# Altium schematic symbol library SL_Diodes.SchLib: 5 symbols
Pins are listed as number, name and electrical type; pins without a type are passive.

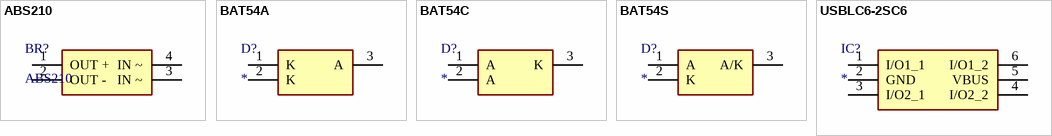
[diagram p0: symbols ABS210 to USBLC6-2SC6]

## ABS210
designator BR?
Bridge Rectifier, 1kV, 2A; Manufacturer_Name: Shikues; Datasheet Link: https://datasheet.lcsc.com/szlcsc/2001081204_Shikues-ABS210_C475598.pdf; Height: 1.5mm; Manufacturer_Part_Number: ABS210
footprint SOP400P620X150-4N
pins: 1 OUT +, 2 OUT -, 3 IN ~, 4 IN ~

## BAT54A
designator D?
Schottky Diode; Manufacturer_Name: onsemi; Manufacturer_Part_Number: BAT54A; Datasheet Link: https://static.chipdip.ru/lib/402/DOC014402309.pdf; Height: 1.2mm; Mouser Part Number: 512-BAT54A; Arrow Part Number: BAT54A
footprint SOT95P240X120-3N
pins: 1 K, 2 K, 3 A

## BAT54C
designator D?
Schottky Diode; Manufacturer_Name: onsemi; Manufacturer_Part_Number: BAT54C; Datasheet Link: https://static.chipdip.ru/lib/402/DOC014402309.pdf; Height: 1.2mm; Mouser Part Number: 512-BAT54C; Arrow Part Number: BAT54C
footprint SOT95P240X120-3N
pins: 1 A, 2 A, 3 K

## BAT54S
designator D?
Schottky Diode; Manufacturer_Name: onsemi; Manufacturer_Part_Number: BAT54S; Datasheet Link: https://static.chipdip.ru/lib/402/DOC014402309.pdf; Height: 1.2mm; Mouser Part Number: 512-BAT54S; Arrow Part Number: BAT54S
footprint SOT95P240X120-3N
pins: 1 A, 2 K, 3 A/K

## USBLC6-2SC6
designator IC?
Integrated Circuit; Manufacturer_Name: STMicroelectronics; Manufacturer_Part_Number: USBLC6-2SC6; Datasheet Link: http://www.st.com/st-web-ui/static/active/en/resource/technical/document/datasheet/CD00050750.pdf; Height: 1.45mm; Mouser Part Number: 511-USBLC6-2SC6; Mouser Price/Stock: https://www.mouser.co.uk/ProductDetail/STMicroelectronics/USBLC6-2SC6?qs=po45yt2pPpu%2FhNIlwQdTlg%3D%3D; Arrow Part Number: USBLC6-2SC6; Arrow Price/Stock: https://www.arrow.com/en/products/usblc6-2sc6/stmicroelectronics?region=nac
footprint SOT95P280X145-6N
pins: 1 I/O1_1, 2 GND, 3 I/O2_1, 4 I/O2_2, 5 VBUS, 6 I/O1_2